# Altium footprint library PCB - CONNECTOR - MOLEX - MOLEX KK 0022272061.PCBLIB: 1 footprints
Each footprint in its own frame and in the unit in brackets; x right, y up, seen from the top. Pads: shape width x height; smd on the part's side, far side on the other; paste and mask are expansions set on the pad; w line width, h text height; cw(c..) or ccw(c..) is an arc to the next point about the centre after c.
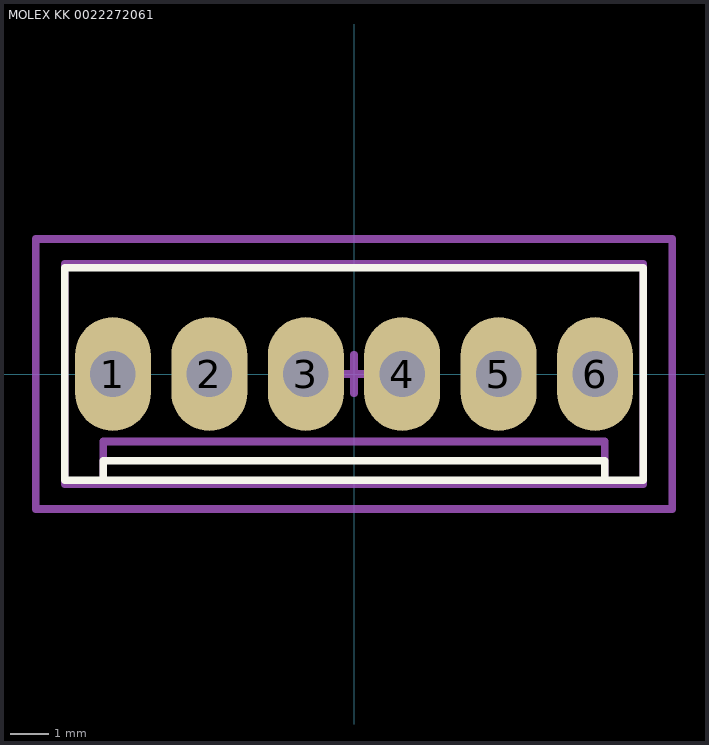
[diagram p0: the footprint, top view; thin cyan lines are the x and y axes]

## MOLEX KK 0022272061 [mm]
height 11.6
pads (6):
  oval 2x3 hole 1.2: 1(-6.35,0) 2(-3.81,0) 3(-1.27,0) 4(1.27,0) 5(3.81,0) 6(6.35,0)
Top Overlay:
  lines w0.2: -6.604,-2.794 -6.604,-2.286 6.604,-2.286 6.604,-2.794 ; -7.62,-2.794 -7.62,2.794 7.62,2.794 7.62,-2.794 -7.62,-2.794
Mechanical 13:
  lines w0.2: -6.604,-2.9 -6.604,-1.778 6.604,-1.778 6.604,-2.9 ; -7.62,-2.9 7.62,-2.9 7.62,2.9 -7.62,2.9 -7.62,-2.9
Mechanical 15:
  lines w0.2: -0.508,0 0.508,0 ; 0,-0.508 0,0.508 ; -8.382,-3.556 8.382,-3.556 8.382,-1.016 8.382,3.556 -8.382,3.556 -8.382,-3.556
3D body "MOLEX KK 022272061.STEP": height 11.7, standoff -3.56, extent -7.62,-2.9 7.62,2.9